# Altium footprint library CommonPcb.PcbLib: 194 footprints (part 8 of 13)
Each footprint in its own frame and in the unit in brackets; x right, y up, seen from the top. Pads: shape width x height; smd on the part's side, far side on the other; paste and mask are expansions set on the pad; w line width, h text height; cw(c..) or ccw(c..) is an arc to the next point about the centre after c.
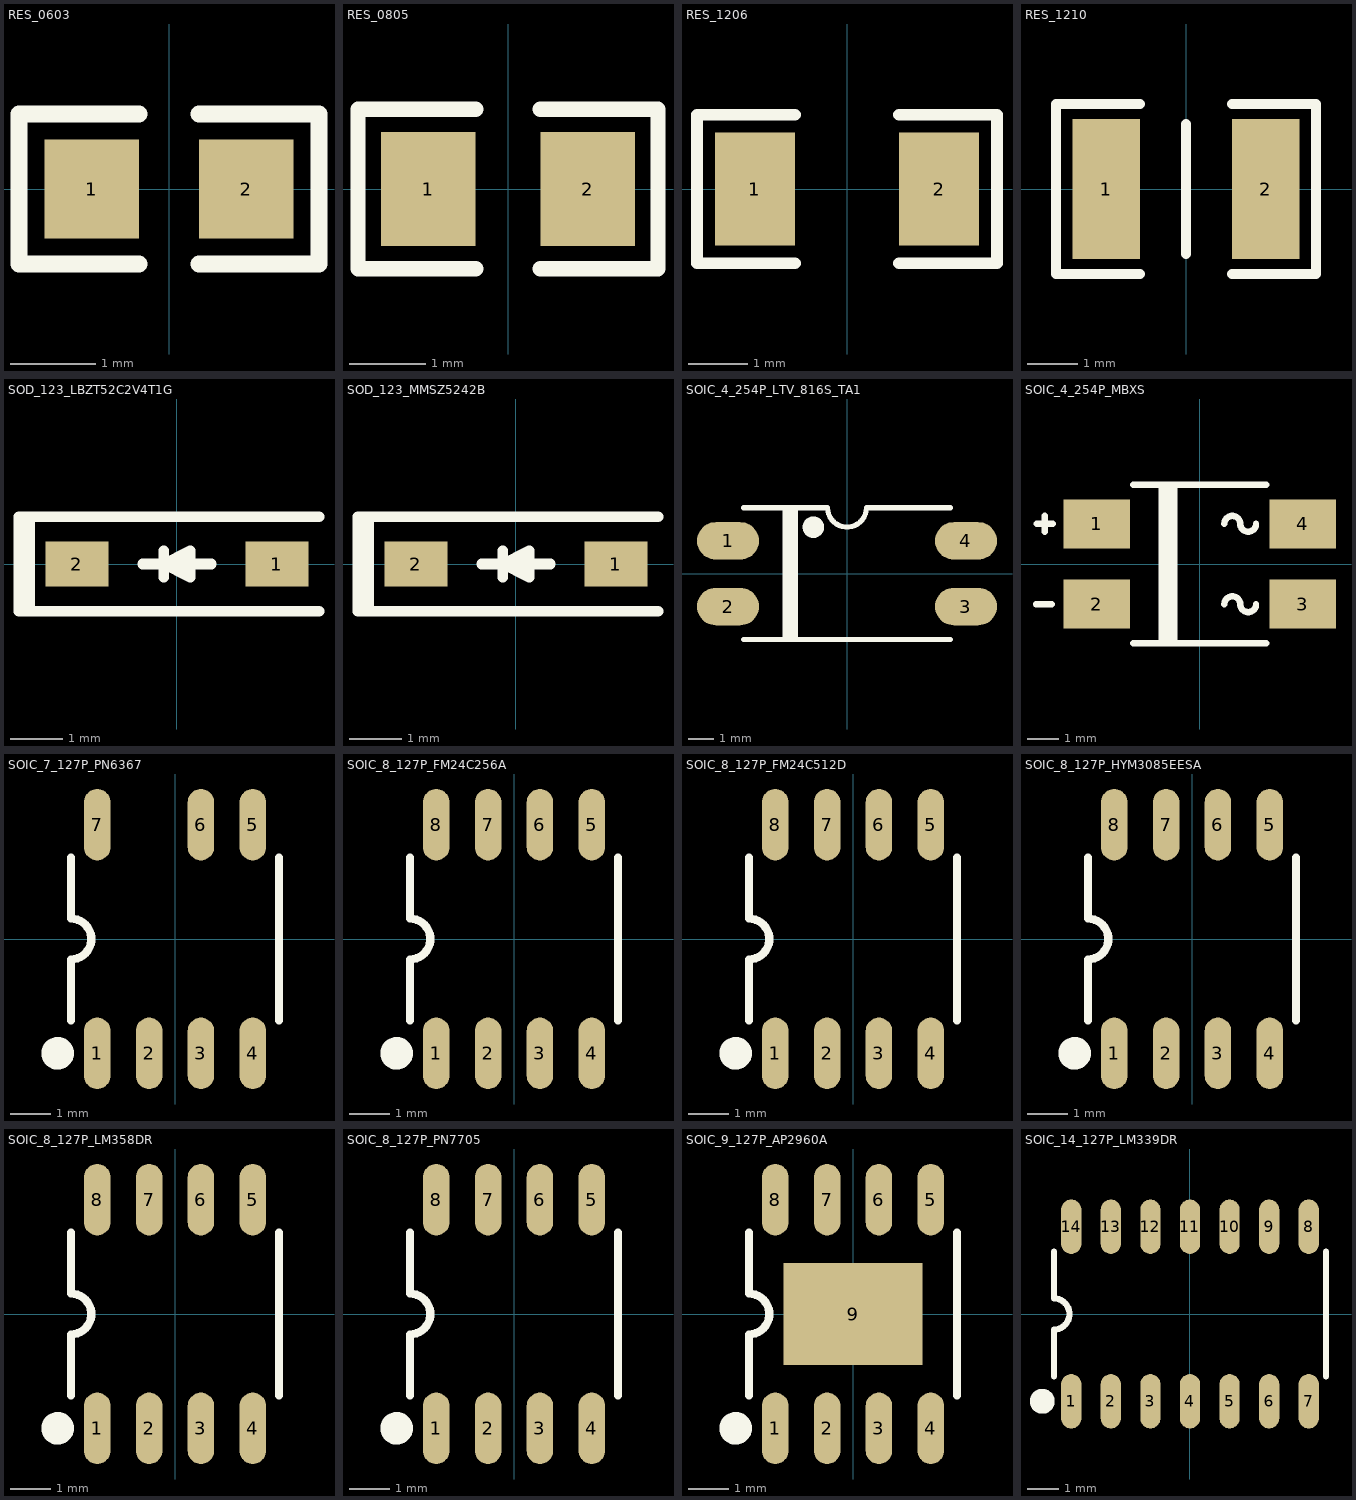
[diagram p7: the footprints below, top view; thin cyan lines are the x and y axes]

## RES_0603 [mm] "0603"
height 0.6
pads (2):
  rect 1.1x1.15 smd mask+0.1: 1(-0.9,0) 2(0.9,0)
Top Overlay:
  lines w0.2: -0.35,-0.875 -1.75,-0.875 -1.75,0.875 -0.35,0.875 ; 0.35,-0.875 1.75,-0.875 1.75,0.875 0.35,0.875
3D body: height 0, standoff 0, extent -0.85,-0.45 0.85,0.45

## RES_0805 [mm] "0805"
height 0.6
pads (2):
  rect 1.25x1.5 smd mask+0.1: 1(-1.05,0) 2(1.05,0)
Top Overlay:
  lines w0.2: -0.425,-1.05 -1.975,-1.05 -1.975,1.05 -0.425,1.05 ; 0.425,-1.05 1.975,-1.05 1.975,1.05 0.425,1.05
3D body: height 0, standoff 0, extent -1.05,-0.7 1.05,0.7

## RES_1206 [mm] "1206"
height 0.7
pads (2):
  rect 1.35x1.9 smd mask+0.1: 1(-1.55,0) 2(1.55,0)
Top Overlay:
  lines w0.2: -0.875,-1.25 -2.525,-1.25 -2.525,1.25 -0.875,1.25 ; 0.875,-1.25 2.525,-1.25 2.525,1.25 0.875,1.25
3D body: height 0, standoff 0, extent -1.6,-0.85 1.6,0.85

## RES_1210 [mm] "1210"
height 0.7
pads (2):
  rect 1.35x2.8 smd mask+0.1: 1(-1.6,0) 2(1.6,0)
Top Overlay:
  lines w0.2: -0.925,-1.7 -2.6,-1.7 -2.6,1.7 -0.925,1.7 ; 0,-1.3 0,1.3 ; 0.925,-1.7 2.6,-1.7 2.6,1.7 0.925,1.7
3D body: height 2.5, standoff 0, extent -1.6,-1.4 1.6,1.4

## SOD_123_LBZT52C2V4T1G [mm] "SOD-123"
height 1.2
pads (2):
  rect 1.2x0.85 smd mask+0.1: 1(1.9,0) 2(-1.9,0)
Top Overlay:
  lines w0.2: -0.65,0 -0.25,0 ; -0.25,-0.25 -0.25,0.25 ; 0.65,0 0.25,0 -0.25,0 ; 2.7,-0.9 -2.7,-0.9 -2.8,-0.9 ; 2.7,0.9 -2.7,0.9 -2.8,0.9 ; -2.8,-0.9 -2.8,0.9 ; -2.8,-0.9 -3,-0.9 -3,0.9 -2.8,0.9 ; -0.25,0 0.25,0.25 0.25,-0.25 -0.25,0
3D body: height 0, standoff 0, extent -2.7,-0.9 2.7,0.9

## SOD_123_MMSZ5242B [mm] "SOD-123"
height 1.2
pads (2):
  rect 1.2x0.85 smd mask+0.1: 1(1.9,0) 2(-1.9,0)
Top Overlay:
  lines w0.2: -0.65,0 -0.25,0 ; -0.25,-0.25 -0.25,0.25 ; 0.65,0 0.25,0 -0.25,0 ; 2.7,-0.9 -2.7,-0.9 -2.8,-0.9 ; 2.7,0.9 -2.7,0.9 -2.8,0.9 ; -2.8,-0.9 -3,-0.9 -3,0.9 -2.8,0.9 ; -2.8,-0.9 -2.8,0.9 ; -0.25,0 0.25,-0.25 0.25,0.25 -0.25,0
3D body: height 0, standoff 0, extent -2.7,-0.9 2.7,0.9

## SOIC_4_254P_LTV_816S_TA1 [mm] "SOIC_4_254P  9.2mm"
pads (4):
  oval 2.4x1.45 smd mask+0.1: 1(-4.6,1.27) 2(-4.6,-1.27) 3(4.6,-1.27) 4(4.6,1.27)
Top Overlay:
  circle w0.43: c-1.3,1.8 r0.2
  lines w0.2: -4,-2.55 4,-2.55 ; -4,2.55 -0.75,2.55 ccw(c0,2.55) 0.75,2.55 4,2.55 ; -2.4,-2.55 -2.4,2.55 ; -2.2,-2.55 -2.2,2.55 ; -2,-2.55 -2,2.55
3D body: height 0, standoff 0, extent -6,-2.65 6,2.65

## SOIC_4_254P_MBXS [mm] "SOIC_4_254P  6.2mm"
pads (4):
  rect 2.1x1.55 smd mask+0.1: 1(-3.25,1.27) 2(-3.25,-1.27) 3(3.25,-1.27) 4(3.25,1.27)
Top Overlay:
  lines w0.2: -5.175,-1.27 -4.675,-1.27 ; -5.15,1.27 -4.65,1.27 ; -4.9,1.02 -4.9,1.52 ; -2.1,-2.5 2.1,-2.5 ; -2.1,2.5 2.1,2.5 ; -1.2,-2.5 -1.2,2.5 ; -1,-2.5 -1,2.5 ; -0.8,-2.5 -0.8,2.5 ; 0.775,-1.27 cw(c1.025,-1.27) 1.275,-1.27 ccw(c1.525,-1.27) 1.775,-1.27 ; 0.775,1.27 cw(c1.025,1.27) 1.275,1.27 ccw(c1.525,1.27) 1.775,1.27
3D body: height 0, standoff 0, extent -4.5,-2.5 4.5,2.5

## SOIC_7_127P_PN6367 [mm] "SOIC_7_127P"
pads (7):
  oval 0.65x1.75 smd mask+0.1: 1(-1.905,-2.8) 2(-0.635,-2.8) 3(0.635,-2.8) 4(1.905,-2.8) 5(1.905,2.8) 6(0.635,2.8) 7(-1.905,2.8)
Top Overlay:
  circle w0.4: c-2.875,-2.8 r0.2
  lines w0.2: -2.55,-2 -2.55,-0.5 ccw(c-2.55,0) -2.55,0.5 -2.55,2 ; 2.55,-2 2.55,2
3D body: height 0, standoff 0, extent -2.65,-4 2.65,4

## SOIC_8_127P_FM24C256A [mm] "SOIC_8_127P"
pads (8):
  oval 0.65x1.75 smd mask+0.1: 1(-1.905,-2.8) 2(-0.635,-2.8) 3(0.635,-2.8) 4(1.905,-2.8) 5(1.905,2.8) 6(0.635,2.8) 7(-0.635,2.8) 8(-1.905,2.8)
Top Overlay:
  circle w0.4: c-2.875,-2.8 r0.2
  lines w0.2: -2.55,-2 -2.55,-0.5 ccw(c-2.55,0) -2.55,0.5 -2.55,2 ; 2.55,-2 2.55,2
3D body: height 0, standoff 0, extent -2.65,-4 2.65,4

## SOIC_8_127P_FM24C512D [mm] "SOIC_8_127P"
pads (8):
  oval 0.65x1.75 smd mask+0.1: 1(-1.905,-2.8) 2(-0.635,-2.8) 3(0.635,-2.8) 4(1.905,-2.8) 5(1.905,2.8) 6(0.635,2.8) 7(-0.635,2.8) 8(-1.905,2.8)
Top Overlay:
  circle w0.4: c-2.875,-2.8 r0.2
  lines w0.2: -2.55,-2 -2.55,-0.5 ccw(c-2.55,0) -2.55,0.5 -2.55,2 ; 2.55,-2 2.55,2
3D body: height 0, standoff 0, extent -2.65,-4 2.65,4

## SOIC_8_127P_HYM3085EESA [mm] "SOIC_8_127P"
pads (8):
  oval 0.65x1.75 smd mask+0.1: 1(-1.905,-2.8) 2(-0.635,-2.8) 3(0.635,-2.8) 4(1.905,-2.8) 5(1.905,2.8) 6(0.635,2.8) 7(-0.635,2.8) 8(-1.905,2.8)
Top Overlay:
  circle w0.4: c-2.875,-2.8 r0.2
  lines w0.2: -2.55,-2 -2.55,-0.5 ccw(c-2.55,0) -2.55,0.5 -2.55,2 ; 2.55,-2 2.55,2
3D body: height 0, standoff 0, extent -2.65,-4 2.65,4

## SOIC_8_127P_LM358DR [mm] "SOIC_8_127P"
pads (8):
  oval 0.65x1.75 smd mask+0.1: 1(-1.905,-2.8) 2(-0.635,-2.8) 3(0.635,-2.8) 4(1.905,-2.8) 5(1.905,2.8) 6(0.635,2.8) 7(-0.635,2.8) 8(-1.905,2.8)
Top Overlay:
  circle w0.4: c-2.875,-2.8 r0.2
  lines w0.2: -2.55,-2 -2.55,-0.5 ccw(c-2.55,0) -2.55,0.5 -2.55,2 ; 2.55,-2 2.55,2
3D body: height 0, standoff 0, extent -2.65,-4 2.65,4

## SOIC_8_127P_PN7705 [mm] "SOIC_8_127P"
pads (8):
  oval 0.65x1.75 smd mask+0.1: 1(-1.905,-2.8) 2(-0.635,-2.8) 3(0.635,-2.8) 4(1.905,-2.8) 5(1.905,2.8) 6(0.635,2.8) 7(-0.635,2.8) 8(-1.905,2.8)
Top Overlay:
  circle w0.4: c-2.875,-2.8 r0.2
  lines w0.2: -2.55,-2 -2.55,-0.5 ccw(c-2.55,0) -2.55,0.5 -2.55,2 ; 2.55,-2 2.55,2
3D body: height 0, standoff 0, extent -2.65,-4 2.65,4

## SOIC_9_127P_AP2960A [mm] "SOIC_9_127P"
pads (9):
  oval 0.65x1.75 smd mask+0.1: 1(-1.905,-2.8) 2(-0.635,-2.8) 3(0.635,-2.8) 4(1.905,-2.8) 5(1.905,2.8) 6(0.635,2.8) 7(-0.635,2.8) 8(-1.905,2.8)
  rect 3.4x2.5 smd mask+0.1: 9(0,0)
Top Overlay:
  circle w0.4: c-2.875,-2.8 r0.2
  lines w0.2: -2.55,-2 -2.55,-0.5 ccw(c-2.55,0) -2.55,0.5 -2.55,2 ; 2.55,-2 2.55,2
3D body: height 0, standoff 0, extent -2.65,-4 2.65,4

## SOIC_14_127P_LM339DR [mm] "SOIC_14_127P"
pads (14):
  oval 0.65x1.75 smd mask+0.1: 1(-3.81,-2.8) 2(-2.54,-2.8) 3(-1.27,-2.8) 4(0,-2.8) 5(1.27,-2.8) 6(2.54,-2.8) 7(3.81,-2.8) 8(3.81,2.8) 9(2.54,2.8) 10(1.27,2.8) 11(0,2.8) 12(-1.27,2.8) 13(-2.54,2.8) 14(-3.81,2.8)
Top Overlay:
  circle w0.4: c-4.74,-2.8 r0.2
  lines w0.2: -4.365,-2 -4.365,-0.5 ccw(c-4.365,0) -4.365,0.5 -4.365,2 ; 4.365,-2 4.365,2
3D body: height 0, standoff 0, extent -4.365,-4 4.365,4